# EAGLE library part OLED (library IntegerLabs)
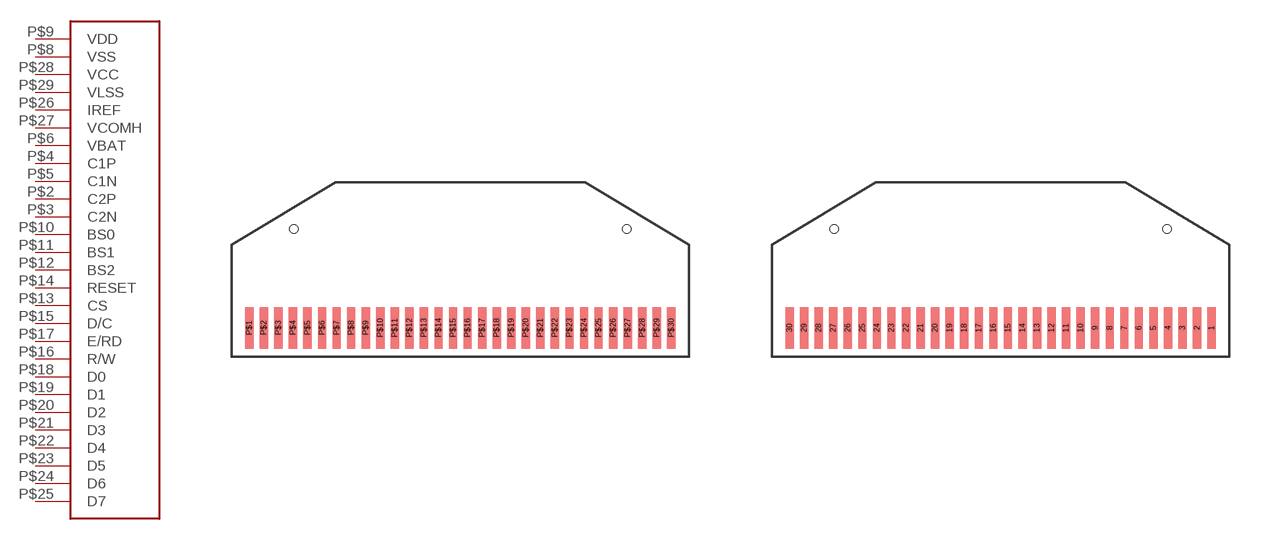
[diagram p5: symbol with the pads of FPC-30; footprints FPC-30, FPC-30-REVERSE]

Designator prefix -

## OLED  [FPC-30]
P$2  C2P
P$3  C2N
P$4  C1P
P$5  C1N
P$6  VBAT
P$8  VSS
P$9  VDD
P$10  BS0
P$11  BS1
P$12  BS2
P$13  CS
P$14  RESET
P$15  D/C
P$16  R/W
P$17  E/RD
P$18  D0
P$19  D1
P$20  D2
P$21  D3
P$22  D4
P$23  D5
P$24  D6
P$25  D7
P$26  IREF
P$27  VCOMH
P$28  VCC
P$29  VLSS

## OLEDREVERSE  [FPC-30-REVERSE]
2  C2P
3  C2N
4  C1P
5  C1N
6  VBAT
8  VSS
9  VDD
10  BS0
11  BS1
12  BS2
13  CS
14  RESET
15  D/C
16  R/W
17  E/RD
18  D0
19  D1
20  D2
21  D3
22  D4
23  D5
24  D6
25  D7
26  IREF
27  VCOMH
28  VCC
29  VLSS

## Footprint FPC-30 (pad centres in mm)
smd 0.4 x 2: P$1 -10.15,0; P$2 -9.45,0; P$3 -8.75,0; P$4 -8.05,0; P$5 -7.35,0; P$6 -6.65,0; P$7 -5.95,0; P$8 -5.25,0; P$9 -4.55,0; P$10 -3.85,0; P$11 -3.15,0; P$12 -2.45,0; P$13 -1.75,0; P$14 -1.05,0; P$15 -0.35,0; P$16 0.35,0; P$17 1.05,0; P$18 1.75,0; P$19 2.45,0; P$20 3.15,0; P$21 3.85,0; P$22 4.55,0; P$23 5.25,0; P$24 5.95,0; P$25 6.65,0; P$26 7.35,0; P$27 8.05,0; P$28 8.75,0; P$29 9.45,0; P$30 10.15,0
hole 0.4 at -8,4.75
hole 0.4 at 8,4.75

## Footprint FPC-30-REVERSE (pad centres in mm)
smd 0.4 x 2: 1 10.15,-2.54; 2 9.45,-2.54; 3 8.75,-2.54; 4 8.05,-2.54; 5 7.35,-2.54; 6 6.65,-2.54; 7 5.95,-2.54; 8 5.25,-2.54; 9 4.55,-2.54; 10 3.85,-2.54; 11 3.15,-2.54; 12 2.45,-2.54; 13 1.75,-2.54; 14 1.05,-2.54; 15 0.35,-2.54; 16 -0.35,-2.54; 17 -1.05,-2.54; 18 -1.75,-2.54; 19 -2.45,-2.54; 20 -3.15,-2.54; 21 -3.85,-2.54; 22 -4.55,-2.54; 23 -5.25,-2.54; 24 -5.95,-2.54; 25 -6.65,-2.54; 26 -7.35,-2.54; 27 -8.05,-2.54; 28 -8.75,-2.54; 29 -9.45,-2.54; 30 -10.15,-2.54
hole 0.4 at -8,2.21
hole 0.4 at 8,2.21